# Altium footprint library THD-PCBLIB.PcbLib: 12 footprints
Each footprint in its own frame and in the unit in brackets; x right, y up, seen from the top. Pads: shape width x height; smd on the part's side, far side on the other; paste and mask are expansions set on the pad; w line width, h text height; cw(c..) or ccw(c..) is an arc to the next point about the centre after c.
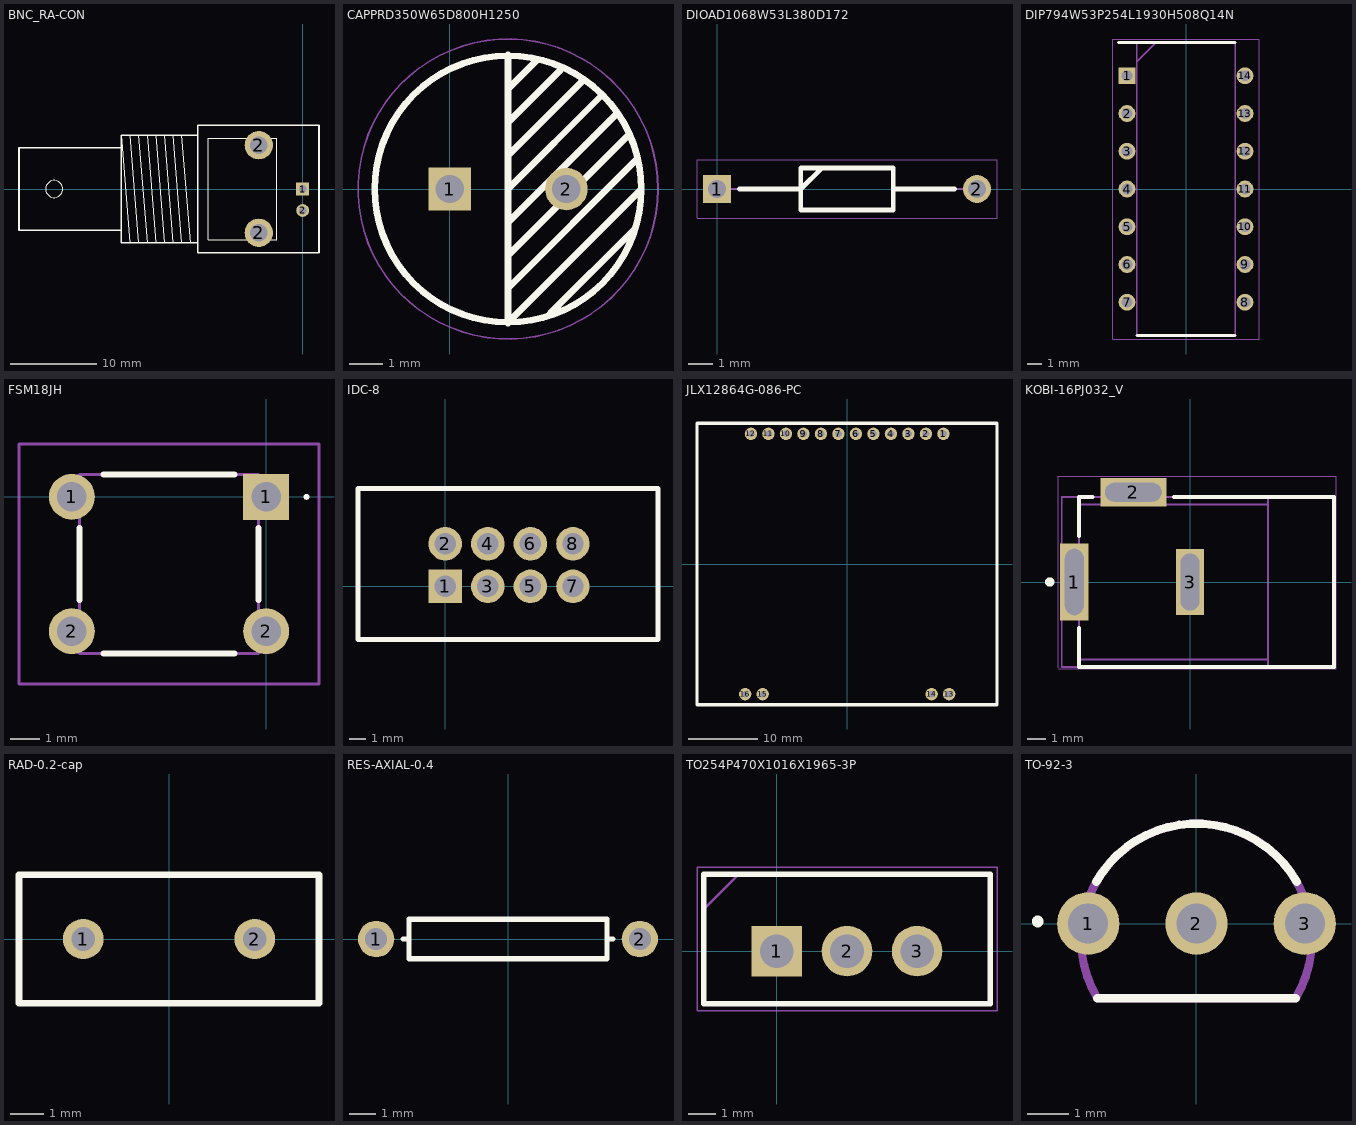
[diagram p0: the footprints below, top view; thin cyan lines are the x and y axes]

## BNC_RA-CON [mm] "Connector; BNC Elbow"
height 6
pads (4):
  rect 1.5x1.5 hole 0.9: 1(0,0)
  round 3.3 hole 2: 2(-5.1,-5.1) 2(-5.1,5.1)
  round 1.5 hole 0.9: 2(0,-2.5)
Top Overlay:
  circle w0.025: c-28.9,0 r1
  lines w0.025: -20.1,-6.25 -21.1,6.25 ; -20.1,6.25 -19.1,-6.25 ; -19.1,6.25 -18.1,-6.25 ; -18.1,6.25 -17.1,-6.25 ; -17.1,6.25 -16.1,-6.25 ; -16.1,6.25 -15.1,-6.25 ; -15.1,6.25 -14.1,-6.25 ; -14.1,6.25 -13.1,-6.25 ; -21.1,-4.8 -33,-4.8 -33,4.8 -21.1,4.8 ; -21.1,-4.8 -21.1,4.8 ; -21.1,-4.8 -21.1,-6.25 -12.2,-6.25 ; -21.1,4.8 -21.1,6.25 ; -21.1,6.25 -12.2,6.25 ; -12.2,-6.25 -12.2,6.25 ; -12.2,-6.25 -12.2,-7.4 1.9,-7.4 1.9,7.4 -12.2,7.4 -12.2,6.25 ; -11,-5.9 -3,-5.9 -3,5.9 -11,5.9 -11,-5.9
  lines w0.2: -21.1,-4.8 -21.1,4.8 ; -21.1,-4.8 -33,-4.8 -33,4.8 -21.1,4.8 ; -21.1,-4.8 -21.1,-6.25 -12.2,-6.25 ; -21.1,4.8 -21.1,6.25 -12.2,6.25 ; -12.2,-6.25 -12.2,6.25 ; -12.2,-6.25 -12.2,-7.4 1.9,-7.4 1.9,7.4 -12.2,7.4 -12.2,6.25
3D body "5227677-1.stp": height 16.12, standoff -3.87, extent -33.66,-7.379 1.9,7.379

## CAPPRD350W65D800H1250 [mm]
pads (2):
  rect 1.275x1.275 hole 0.85: 1(0,0)
  round 1.275 hole 0.85: 2(3.5,0)
Top Overlay:
  circle w0.2: c1.75,0 r4
  lines w0.2: 1.75,-4.025 1.75,4.025 ; 1.75,-3.1 1.75,-3 1.75,-2.977 5.623,0.896 ; 1.75,-2.2 1.75,-1.75 ; 1.75,-2 5.397,1.647 ; 1.75,-1.1 1.75,-0.45 ; 1.75,-1 4.975,2.225 ; 1.75,0.7 1.75,0 4.578,2.828 ; 1.75,1 3.975,3.225 ; 1.75,1.3 1.75,1.65 1.75,2.45 ; 1.75,2 3.325,3.575 ; 1.75,2.8 1.75,3.15 ; 1.75,3 2.625,3.875 ; 3.025,-3.725 5.523,-1.227 ; 1.75,-4 5.75,0 ; 1.75,-4 1.75,-4 ; 1.75,-4 5.75,0 ; 1.75,-4 5.75,0
Mechanical 13:
  circle w0.1: c1.75,0 r4
Mechanical 15:
  circle w0.05: c1.75,0 r4.5
3D body "User Library-Cap electro 8x11_5x3_5mm.step": height 12.03, standoff -3.48, extent -2.275,-4.025 5.775,4.025

## DIOAD1068W53L380D172 [mm]
pads (2):
  rect 1.15x1.15 hole 0.75: 1(0,0)
  round 1.15 hole 0.75: 2(10.7,0)
Top Overlay:
  lines w0.2: 0.925,0 3.448,0 4.308,0.86 ; 7.252,0 9.775,0 ; 3.448,-0.86 3.448,0.86 7.252,0.86 7.252,-0.86 3.448,-0.86
Mechanical 13:
  lines w0.1: 0,0 3.448,0 4.308,0.86 ; 7.252,0 10.7,0 ; 3.448,-0.86 3.448,0.86 7.253,0.86 7.253,-0.86 3.448,-0.86
Mechanical 15:
  lines w0.05: -0.825,-1.21 -0.825,1.21 11.525,1.21 11.525,-1.21 -0.825,-1.21
3D body "1N4148.stp": height 1.91, standoff -1.91, extent -0.266,-0.948 10.951,0.948

## DIP794W53P254L1930H508Q14N [mm]
pads (14):
  rect 1.13x1.13 hole 0.73: 1(-3.97,7.62)
  round 1.13 hole 0.73: 2(-3.97,5.08) 3(-3.97,2.54) 4(-3.97,0) 5(-3.97,-2.54) 6(-3.97,-5.08) 7(-3.97,-7.62) 8(3.97,-7.62) 9(3.97,-5.08) 10(3.97,-2.54) 11(3.97,0) 12(3.97,2.54) 13(3.97,5.08) 14(3.97,7.62)
Top Overlay:
  lines w0.2: -4.535,9.845 3.3,9.845 ; -3.3,-9.845 3.3,-9.845
Mechanical 13:
  lines w0.1: -3.3,8.575 -2.03,9.845 ; -3.3,-9.845 3.3,-9.845 3.3,9.845 -3.3,9.845 -3.3,-9.845
Mechanical 15:
  lines w0.05: -4.945,-10.095 4.945,-10.095 4.945,10.095 -4.945,10.095 -4.945,-10.095
3D body "LM324N.stp": height 5.08, standoff -3.5, extent -4.102,-9.653 4.102,9.653

## FSM18JH [mm]
pads (4):
  round 1.54 hole 0.99: 1(-6.5,0) 2(-6.5,-4.5) 2(0,-4.5)
  rect 1.54x1.54 hole 0.99: 1(0,0)
Top Overlay:
  lines w0.1: 1.3,0 cw(c1.35,0) 1.4,0 cw(c1.35,0) 1.3,0
  lines w0.2: -6.25,-1.05 -6.245,-3.45 ; -5.45,-5.245 -1.05,-5.245 ; -5.45,0.745 -1.05,0.75 ; -0.255,-3.45 -0.255,-1.05
Mechanical 13:
  lines w0.1: -6.245,-5.245 -6.245,0.745 -0.255,0.745 -0.255,-5.245 -6.245,-5.245
Mechanical 15:
  lines w0.1: -8.27,-6.27 -8.27,1.77 1.77,1.77 1.77,-6.27 -8.27,-6.27
3D body "User Library-Tactile switch 6x6x5mm.step": height 5.01, standoff -3.51, extent -7.173,-5.301 0.569,0.729

## IDC-8 [mm]
pads (8):
  rect 2x2 hole 1.27: 1(0,0)
  round 2 hole 1.27: 2(0,2.54) 3(2.54,0) 4(2.54,2.54) 5(5.08,0) 6(5.08,2.54) 7(7.62,0) 8(7.62,2.54)
Top Overlay:
  lines w0.305: -5.207,-3.175 -5.207,5.842 12.7,5.842 12.7,-3.175 -5.207,-3.175
3D body "User Library-DS1013-8S (IDC-8MS CONNFLY).step": height 9, standoff -3.6, extent -5.17,-3.23 12.79,5.67

## JLX12864G-086-PC [mm]
height 4.5
pads (16):
  round 1.8 hole 1: 1(13.97,18.9) 2(11.43,18.9) 3(8.89,18.9) 4(6.35,18.9) 5(3.81,18.9) 6(1.27,18.9) 7(-1.27,18.9) 8(-3.81,18.9) 9(-6.35,18.9) 10(-8.89,18.9) 11(-11.43,18.9) 12(-13.97,18.9) 13(14.8,-18.9) 14(12.26,-18.9) 15(-12.26,-18.9) 16(-14.8,-18.9)
Top Overlay:
  lines w0.508: -21.8,-20.4 -21.8,20.4 21.75,20.4 21.75,-20.4 -21.75,-20.4
3D body "User Library-LCD12864_SLDASM.step": height 3.5, standoff 0, extent -21.75,-20.445 21.75,20.445

## KOBI-16PJ032_V [mm]
pads (3):
  rect 1.5x4.05 hole 0.991 slot 3.505 at 90 deg: 1(-6.121,0)
  rect 3.5x1.5 hole 0.991 slot 2.997 at 0 deg: 2(-2.997,4.75)
  rect 1.5x3.5 hole 0.991 slot 2.997 at 90 deg: 3(0,0)
Top Overlay:
  circle w0.25: c-7.421,0 r0.125
  lines w0.2: -5.867,-2.425 -5.867,-4.496 7.62,-4.496 7.62,4.496 -0.847,4.496 ; -5.867,2.425 -5.867,4.496 -5.147,4.496
Mechanical 13:
  lines w0.1: -5.867,-1.499 -6.375,-1.499 ; -5.867,1.499 -6.375,1.499 ; -4.369,4.496 -4.369,5.004 -1.88,5.004 -1.88,4.496 ; 4.115,-4.089 -5.867,-4.089 ; 4.115,4.089 -5.867,4.089 ; -6.375,-1.499 -6.782,-1.499 -6.782,-4.496 -5.867,-4.496 ; -6.375,-1.499 -6.375,1.499 ; -6.375,1.499 -6.782,1.499 -6.782,4.496 -5.867,4.496 ; -5.867,-4.496 -5.867,-4.089 ; -5.867,-4.496 4.115,-4.496 ; -5.867,-4.089 -5.867,4.089 ; -5.867,4.089 -5.867,4.496 ; -5.867,4.496 4.115,4.496 ; 4.115,-4.496 7.62,-4.496 7.62,4.496 4.115,4.496 ; 4.115,-4.496 4.115,4.496
Mechanical 15:
  lines w0.05: -6.971,-4.596 7.72,-4.596 7.72,5.6 -6.971,5.6 -6.971,-4.547
  lines w0.1: -0.5,0 0.5,0 ; 0,-0.5 0,0.5
3D body "16PJ031.stp": height 11, standoff -3.51, extent -6.782,-4.496 7.62,5.004

## RAD-0.2-cap [mm] "Radial Cap, Thru-Hole; 2 Leads; 0.2 in Pin Spacing"
pads (2):
  round 1.2 hole 0.7: 1(-2.54,0) 2(2.54,0)
Top Overlay:
  lines w0.2: -4.445,-1.905 4.445,-1.905 4.445,1.905 -4.445,1.905 -4.445,-1.905
3D body "User Library-Cap ceramic F=5mm.STEP": height 6, standoff -3, extent -2.881,-1.234 2.719,1.266

## RES-AXIAL-0.4 [mm]
pads (2):
  round 1.4 hole 0.85: 1(-5.08,0) 2(5.08,0)
Top Overlay:
  lines w0.2: -4.039,0 -3.81,0 ; 4.039,0 3.81,0 ; 3.81,0 3.81,-0.762 -3.81,-0.762 -3.81,0.762 3.81,0.762 3.81,0
3D body "User Library-Res40-Axial 0_25W-150R.step": height 2.41, standoff -2, extent -5.38,-1.2 5.38,1.2

## TO254P470X1016X1965-3P [mm]
pads (3):
  rect 1.83x1.83 hole 1.22: 1(0,0)
  round 1.83 hole 1.22: 2(2.54,0) 3(5.08,0)
Top Overlay:
  lines w0.2: -2.64,-1.91 7.72,-1.91 7.72,2.79 -2.64,2.79 -2.64,-1.91
Mechanical 13:
  lines w0.1: -2.64,1.52 -1.37,2.79 ; -2.64,-1.91 7.72,-1.91 7.72,2.79 -2.64,2.79 -2.64,-1.91
Mechanical 15:
  lines w0.05: -2.89,-2.16 7.97,-2.16 7.97,3.04 -2.89,3.04 -2.89,-2.16
3D body "UA78M33CKCS.stp": height 19.35, standoff -18.3, extent -2.54,-1.91 7.62,2.79

## TO-92-3 [mm]
pads (3):
  round 1.5 hole 0.96: 1(-2.6,0) 2(0,0) 3(2.6,0)
Top Overlay:
  circle w0.2: c-3.813,0.051 r0.041
  lines w0.2: -2.407,1.002 cw(c0,-0.371) 2.409,0.998 ; -2.38,-1.79 2.38,-1.79
Mechanical 13:
  lines w0.2: -2.38,-1.79 cw(c0,-0.371) 2.38,-1.79 -2.38,-1.79
3D body "SS8550CTA.stp": height 9.78, standoff -11.99, extent -3.08,-1.83 3.08,2.36